# Altium footprint library Shrouded_Header_2x5_127_SMD.PcbLib: 1 footprints
Each footprint in its own frame and in the unit in brackets; x right, y up, seen from the top. Pads: shape width x height; smd on the part's side, far side on the other; paste and mask are expansions set on the pad; w line width, h text height; cw(c..) or ccw(c..) is an arc to the next point about the centre after c.
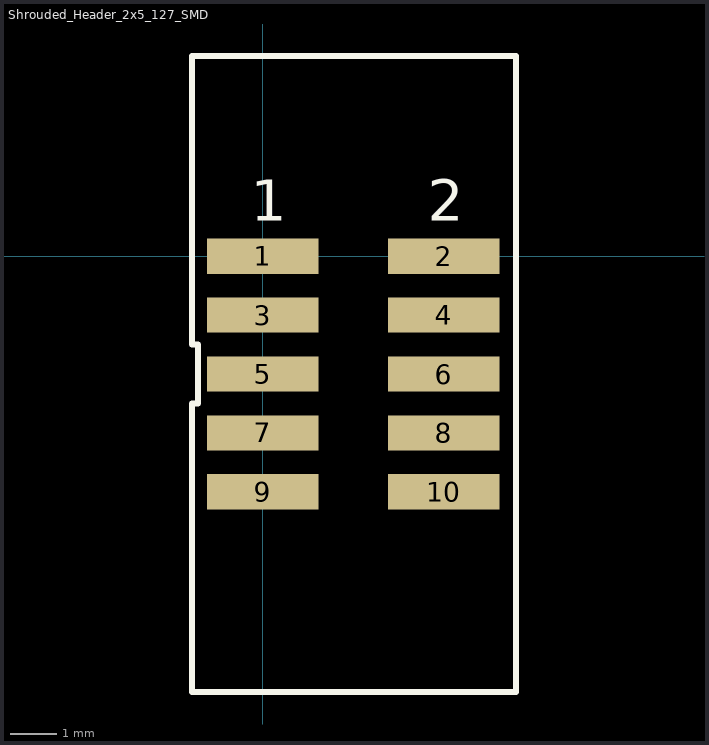
[diagram p0: the footprint, top view; thin cyan lines are the x and y axes]

## Shrouded_Header_2x5_127_SMD [mm]
pads (10):
  rect 2.4x0.76 smd: 1(0,0) 2(3.9,0) 3(0,-1.27) 4(3.9,-1.27) 5(0,-2.54) 6(3.9,-2.54) 7(0,-3.81) 8(3.9,-3.81) 9(0,-5.08) 10(3.9,-5.08)
Top Overlay:
  lines w0.127: -1.524,-9.398 5.461,-9.398 5.461,4.318 -1.524,4.318 -1.524,-1.905 -1.397,-1.905 -1.397,-3.175 -1.524,-3.175 -1.524,-9.398
  text "2" at 3.556,0.762 h0.89
  text "1" at -0.254,0.762 h0.89
3D body "Shrouded_Header_2x5_127_SMD.STEP": height 5.61, standoff 0.01, extent -0.879,-8.841 4.791,3.759